# EAGLE library part 20P_TO_MATRIXMIXER_BOARD (library bao05)
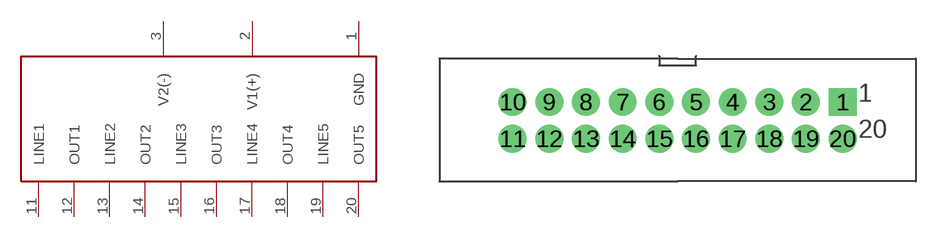
[diagram p1: symbol with the pads of 20._STRIP_CONNECTOR; footprint 20._STRIP_CONNECTOR]

Designator prefix -

## 20P_TO_MATRIXMIXER_BOARD  [20._STRIP_CONNECTOR]
1  GND
2  V1(+)
3  V2(-)
11  LINE1
12  OUT1
13  LINE2
14  OUT2
15  LINE3
16  OUT3
17  LINE4
18  OUT4
19  LINE5
20  OUT5

## Footprint 20._STRIP_CONNECTOR (pad centres in mm)
drill 0.5 pad 1.93 square: 1 11.43,1.27
drill 0.5 pad 1.93: 2 8.89,1.27; 3 6.35,1.27; 4 3.81,1.27; 5 1.27,1.27; 6 -1.27,1.27; 7 -3.81,1.27; 8 -6.35,1.27; 9 -8.89,1.27; 10 -11.43,1.27; 11 -11.43,-1.27; 12 -8.89,-1.27; 13 -6.35,-1.27; 14 -3.81,-1.27; 15 -1.27,-1.27; 16 1.27,-1.27; 17 3.81,-1.27; 18 6.35,-1.27; 19 8.89,-1.27; 20 11.43,-1.27